# EAGLE library part TPS2113A (library TPS2113A)
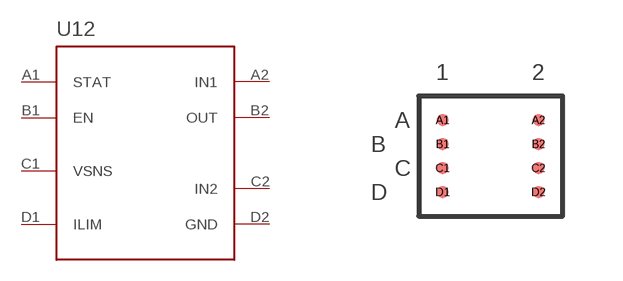
[diagram p0: symbol with the pads of TSSOP-8; footprint TSSOP-8]

Designator prefix -

## TPS2113A  [TSSOP-8]
A1  STAT  out
A2  IN1  in
B1  EN  in
B2  OUT  out
C1  VSNS  in
C2  IN2  in
D1  ILIM  in
D2  GND  pwr

## Footprint TSSOP-8 (pad centres in mm)
smd 0.3 x 0.3: A1 -0.6,1.2; A2 1.8,1.2; B1 -0.6,0.6; B2 1.8,0.6; C1 -0.6,0; C2 1.8,0; D1 -0.6,-0.6; D2 1.8,-0.6